# Altium integrated library ON Semi Signal Management Video Amplifiers.IntLib: 22 symbols
Pins are listed as number, name and electrical type; pins without a type are passive.

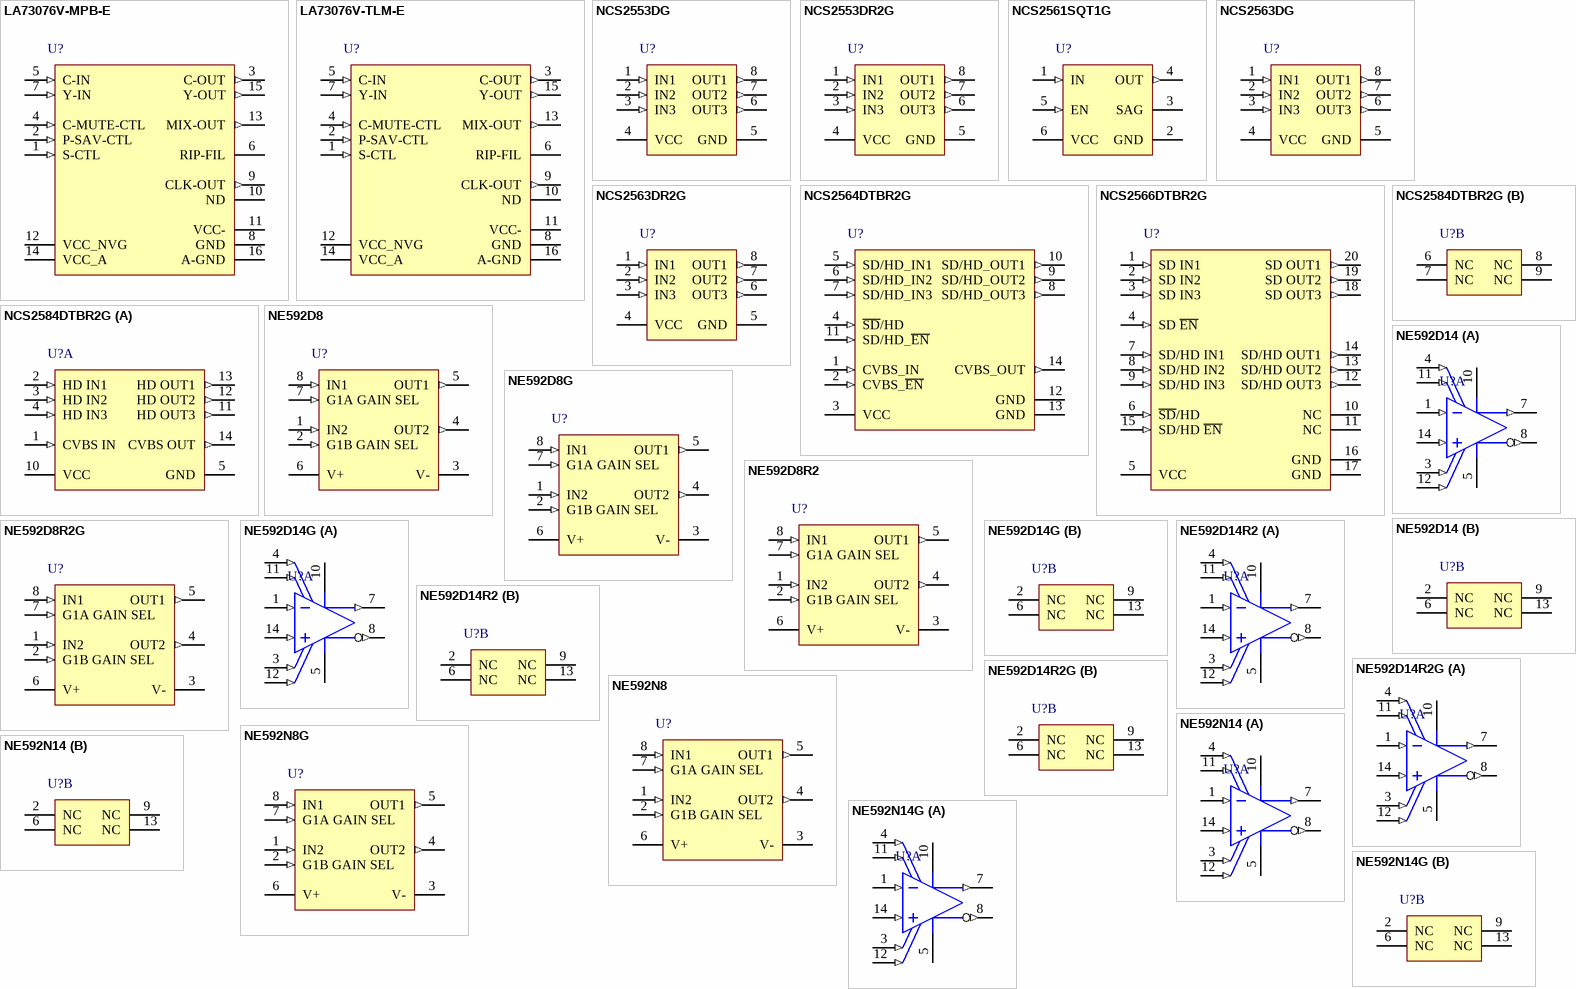
[diagram p0: symbols LA73076V-MPB-E to NE592N14G]

## LA73076V-MPB-E
designator U?
Video Driver for DVC / DSC, Cell Phone, -20 to 80 degC, 16-Pin SSOP, Pb-Free, Fan-Fold; Manufacturer: On Semiconductor; PartNumber: LA73076V-MPB-E; VCC Max (V): 3.6; DatasheetVersion: Rev. 0; PackageReference: SSOP-16; PackageDescription: 16-Pin Small Outline Package, Body 5.2 x 4.4 mm, Pitch 0.65 mm; Supplier 1: Mouser; Supplier Part Number 1: 863-LA73076V-MPB-E; Packing: Fan-Fold; RoHS: TRUE; Mounting Technology: Surface Mount; ComponentLink1Description: Manufacturer URL; ComponentLink1URL: http://www.onsemi.com/; ComponentLink2Description: Datasheet; ComponentLink2URL: http://www.onsemi.com/pub_link/Collateral/ENA0911-D.PDF; ComponentLink3Description: Package Specification; ComponentLink3URL: http://www.onsemi.com/pub_link/Collateral/ENA1879-D.PDF
footprint ONSC-SSOP-16_N (SOP, 16-Leads, Body 5.2x4.4mm, Pitch 0.65mm, IPC Medium Density)
footprint ONSC-SSOP-16_L (SOP, 16-Leads, Body 5.2x4.4mm, Pitch 0.65mm, IPC High Density)
footprint ONSC-SSOP-16_M (SOP, 16-Leads, Body 5.2x4.4mm, Pitch 0.65mm, IPC Low Density)
pins: 1 S-CTL (in) "Output  select pin", 2 P-SAV-CTL (in) "Power save mode select pin", 3 C-OUT (out) "Video output terminal (Push-pull output low-impedance)", 4 C-MUTE-CTL (in) "Mute select pin", 5 C-IN (in) "Video input terminal (Input high-impedance)", 6 RIP-FIL, 7 Y-IN (in) "Video input terminal (Sync-chip clamp (Input high-impedance))", 8 GND (power), 9 CLK-OUT (out) "Clock output terminal", 10 ND "The terminal which transmits an electric charge", 11 VCC- (power) "-VCC", 12 VCC_NVG (power), 13 MIX-OUT (out) "Video output terminal (Push-pull output low-impedance)", 14 VCC_A (power) "Analog VCC", 15 Y-OUT (out), 16 A-GND (power) "Analog GND"

## LA73076V-TLM-E
designator U?
Video Driver for DVC / DSC, Cell Phone, -20 to 80 degC, 16-Pin SSOP, Pb-Free, Tape and Reel; Manufacturer: On Semiconductor; PartNumber: LA73076V-TLM-E; VCC Max (V): 3.6; DatasheetVersion: Rev. 0; PackageReference: SSOP-16; PackageDescription: 16-Pin Small Outline Package, Body 5.2 x 4.4 mm, Pitch 0.65 mm; Supplier 1: Mouser; Supplier Part Number 1: 863-LA73076V-TLM-E; Packing: Tape and Reel; RoHS: TRUE; Mounting Technology: Surface Mount; ComponentLink1Description: Manufacturer URL; ComponentLink1URL: http://www.onsemi.com/; ComponentLink2Description: Datasheet; ComponentLink2URL: http://www.onsemi.com/pub_link/Collateral/ENA0911-D.PDF; ComponentLink3Description: Package Specification; ComponentLink3URL: http://www.onsemi.com/pub_link/Collateral/ENA1879-D.PDF
footprint ONSC-SSOP-16_N (SOP, 16-Leads, Body 5.2x4.4mm, Pitch 0.65mm, IPC Medium Density)
footprint ONSC-SSOP-16_L (SOP, 16-Leads, Body 5.2x4.4mm, Pitch 0.65mm, IPC High Density)
footprint ONSC-SSOP-16_M (SOP, 16-Leads, Body 5.2x4.4mm, Pitch 0.65mm, IPC Low Density)
pins: 1 S-CTL (in) "Output  select pin", 2 P-SAV-CTL (in) "Power save mode select pin", 3 C-OUT (out) "Video output terminal (Push-pull output low-impedance)", 4 C-MUTE-CTL (in) "Mute select pin", 5 C-IN (in) "Video input terminal (Input high-impedance)", 6 RIP-FIL, 7 Y-IN (in) "Video input terminal (Sync-chip clamp (Input high-impedance))", 8 GND (power), 9 CLK-OUT (out) "Clock output terminal", 10 ND "The terminal which transmits an electric charge", 11 VCC- (power) "-VCC", 12 VCC_NVG (power), 13 MIX-OUT (out) "Video output terminal (Push-pull output low-impedance)", 14 VCC_A (power) "Analog VCC", 15 Y-OUT (out), 16 A-GND (power) "Analog GND"

## NCS2553DG
designator U?
3-Channel Video Amplifier with Standard Definition Reconstruction Filters, -40 to 85 degC, 8-Pin SOIC, Pb-Free, Tube; Manufacturer: On Semiconductor; PartNumber: NCS2553DG; VCC Max (V): 5.25; DatasheetVersion: Rev. 4; PackageVersion: Rev. AK, 02/2011; PackageReference: SOIC-8-751-07; PackageDescription: 8-Pin Small Outline Integrated Circuit, Body 4.9 x 3.9 mm, Pitch 1.27 mm; Supplier 1: Digi-Key; Supplier Part Number 1: NCS2553DG-ND; Supplier 2: Mouser; Supplier Part Number 2: 863-NCS2553DG; Packing: Tube; RoHS: TRUE; Mounting Technology: Surface Mount; ComponentLink1Description: Manufacturer URL; ComponentLink1URL: http://www.onsemi.com/; ComponentLink2Description: Datasheet; ComponentLink2URL: http://www.onsemi.com/pub_link/Collateral/NCS2553-D.PDF; ComponentLink3Description: Package Specification; ComponentLink3URL: http://www.onsemi.com/pub_link/Collateral/751-07.PDF
footprint ONSC-SOIC-8-751-07_V (SOIC, 8-Leads, Body 4.9x3.9mm, Pitch 1.27mm)
pins: 1 IN1 (in), 2 IN2 (in), 3 IN3 (in), 4 VCC (power) "Device Power Supply Voltage: +5 V", 5 GND (power) "Connected to Ground", 6 OUT3 (out), 7 OUT2 (out), 8 OUT1 (out)

## NCS2553DR2G
designator U?
3-Channel Video Amplifier with Standard Definition Reconstruction Filters, -40 to 85 degC, 8-Pin SOIC, Pb-Free, Tape and Reel; Manufacturer: On Semiconductor; PartNumber: NCS2553DR2G; VCC Max (V): 5.25; DatasheetVersion: Rev. 4; PackageVersion: Rev. AK, 02/2011; PackageReference: SOIC-8-751-07; PackageDescription: 8-Pin Small Outline Integrated Circuit, Body 4.9 x 3.9 mm, Pitch 1.27 mm; Supplier 1: Digi-Key; Supplier Part Number 1: NCS2553DR2GOSTR-ND; Supplier 2: Digi-Key; Supplier Part Number 2: NCS2553DR2GOSCT-ND; Supplier 3: Digi-Key; Supplier Part Number 3: NCS2553DR2GOSDKR-ND; Supplier 4: Mouser; Supplier Part Number 4: 863-NCS2553DR2G; Packing: Tape and Reel; RoHS: TRUE; Mounting Technology: Surface Mount; ComponentLink1Description: Manufacturer URL; ComponentLink1URL: http://www.onsemi.com/; ComponentLink2Description: Datasheet; ComponentLink2URL: http://www.onsemi.com/pub_link/Collateral/NCS2553-D.PDF; ComponentLink3Description: Package Specification; ComponentLink3URL: http://www.onsemi.com/pub_link/Collateral/751-07.PDF
footprint ONSC-SOIC-8-751-07_V (SOIC, 8-Leads, Body 4.9x3.9mm, Pitch 1.27mm)
pins: 1 IN1 (in), 2 IN2 (in), 3 IN3 (in), 4 VCC (power) "Device Power Supply Voltage: +5 V", 5 GND (power) "Connected to Ground", 6 OUT3 (out), 7 OUT2 (out), 8 OUT1 (out)

## NCS2561SQT1G
designator U?
3.3 V Single Channel Video Driver with Recontruction Filter and SAG Correction, -40 to 125 degC, 6-Pin SC70, Pb-Free, Tape and Reel; Manufacturer: On Semiconductor; PartNumber: NCS2561SQT1G; GBW Typ (MHz): 8; VCC Max (V): 3.3; DatasheetVersion: Rev. 3; PackageVersion: Rev. W, 01/2006; PackageReference: SC70-6-419B-02_W; PackageDescription: 6-Pin Small Outline Transistor, Body 2 x 1.25 mm, Pitch 0.65 mm; Supplier 1: Digi-Key; Supplier Part Number 1: NCS2561SQT1GOSTR-ND; Supplier 2: Digi-Key; Supplier Part Number 2: NCS2561SQT1GOSCT-ND; Supplier 3: Digi-Key; Supplier Part Number 3: NCS2561SQT1GOSDKR-ND; Supplier 4: Newark; Supplier Part Number 4: 95M6844; Supplier 5: Mouser; Supplier Part Number 5: 863-NCS2561SQT1G; Packing: Tape and Reel; RoHS: TRUE; Mounting Technology: Surface Mount; ComponentLink1Description: Manufacturer URL; ComponentLink1URL: http://www.onsemi.com/; ComponentLink2Description: Datasheet; ComponentLink2URL: http://www.onsemi.com/pub/Collateral/NCS2561-D.PDF; ComponentLink3Description: Package Specification; ComponentLink3URL: http://www.onsemi.com/pub_link/Collateral/SMF05C-D.PDF
footprint ONSC-SC70-6-419B-02_W_V (SOT23, 6-Leads, Body 2.2x1.35mm, Pitch 0.65mm)
pins: 1 IN (in) "Video Input", 2 GND (power) "Ground", 3 SAG "Sag Compensation", 4 OUT (out) "Video Output", 5 EN (in) "Enable / Disable Function: High = Enable, Low = Disable. When left open the default state is High.", 6 VCC (power) "Power Supply / 2.7 V =< VCC =< 3.3 V"

## NCS2563DG
designator U?
3-Channel Video Amplifier with High Definition Reconstruction Filters, -40 to 85 degC, 8-Pin SOIC, Pb-Free, Tube; Manufacturer: On Semiconductor; PartNumber: NCS2563DG; VCC Max (V): 5.25; DatasheetVersion: Rev. 4; PackageVersion: Rev. AK, 02/2011; PackageReference: SOIC-8-751-07; PackageDescription: 8-Pin Small Outline Integrated Circuit, Body 4.9 x 3.9 mm, Pitch 1.27 mm; Supplier 1: Digi-Key; Supplier Part Number 1: NCS2563DG-ND; Supplier 2: Mouser; Supplier Part Number 2: 863-NCS2563DG; Packing: Tube; RoHS: TRUE; Mounting Technology: Surface Mount; ComponentLink1Description: Manufacturer URL; ComponentLink1URL: http://www.onsemi.com/; ComponentLink2Description: Datasheet; ComponentLink2URL: http://www.onsemi.com/pub_link/Collateral/NCS2563-D.PDF; ComponentLink3Description: Package Specification; ComponentLink3URL: http://www.onsemi.com/pub_link/Collateral/751-07.PDF
footprint ONSC-SOIC-8-751-07_V (SOIC, 8-Leads, Body 4.9x3.9mm, Pitch 1.27mm)
pins: 1 IN1 (in), 2 IN2 (in), 3 IN3 (in), 4 VCC (power) "Device Power Supply Voltage: +5 V", 5 GND (power) "Connected to Ground", 6 OUT3 (out), 7 OUT2 (out), 8 OUT1 (out)

## NCS2563DR2G
designator U?
3-Channel Video Amplifier with High Definition Reconstruction Filters, -40 to 85 degC, 8-Pin SOIC, Pb-Free, Tape and Reel; Manufacturer: On Semiconductor; PartNumber: NCS2563DR2G; VCC Max (V): 5.25; DatasheetVersion: Rev. 4; PackageVersion: Rev. AK, 02/2011; PackageReference: SOIC-8-751-07; PackageDescription: 8-Pin Small Outline Integrated Circuit, Body 4.9 x 3.9 mm, Pitch 1.27 mm; Supplier 1: Digi-Key; Supplier Part Number 1: NCS2563DR2GOSTR-ND; Supplier 2: Digi-Key; Supplier Part Number 2: NCS2563DR2GOSCT-ND; Supplier 3: Digi-Key; Supplier Part Number 3: NCS2563DR2GOSDKR-ND; Supplier 4: Mouser; Supplier Part Number 4: 863-NCS2563DR2G; Packing: Tape and Reel; RoHS: TRUE; Mounting Technology: Surface Mount; ComponentLink1Description: Manufacturer URL; ComponentLink1URL: http://www.onsemi.com/; ComponentLink2Description: Datasheet; ComponentLink2URL: http://www.onsemi.com/pub_link/Collateral/NCS2563-D.PDF; ComponentLink3Description: Package Specification; ComponentLink3URL: http://www.onsemi.com/pub_link/Collateral/751-07.PDF
footprint ONSC-SOIC-8-751-07_V (SOIC, 8-Leads, Body 4.9x3.9mm, Pitch 1.27mm)
pins: 1 IN1 (in), 2 IN2 (in), 3 IN3 (in), 4 VCC (power) "Device Power Supply Voltage: +5 V", 5 GND (power) "Connected to Ground", 6 OUT3 (out), 7 OUT2 (out), 8 OUT1 (out)

## NCS2564DTBR2G
designator U?
Four-Channel Video Driver with Selectable SD / HD Reconstruction Filters, -40 to 85 degC, 14-Pin TSSOP, Pb-Free, Tape and Reel; Manufacturer: On Semiconductor; PartNumber: NCS2564DTBR2G; VCC Max (V): 5.3; DatasheetVersion: Rev. 6; PackageVersion: Rev. B, 10/2006; PackageReference: TSSOP-14-948G-01; PackageDescription: 14-Pin Small Outline Package, Body 5 x 4.4 mm, Pitch 0.65 mm; Supplier 1: Digi-Key; Supplier Part Number 1: NCS2564DTBR2G-ND; Supplier 2: Mouser; Supplier Part Number 2: 863-NCS2564DTBR2G; Packing: Tape and Reel; RoHS: TRUE; Mounting Technology: Surface Mount; ComponentLink1Description: Manufacturer URL; ComponentLink1URL: http://www.onsemi.com/; ComponentLink2Description: Datasheet; ComponentLink2URL: http://www.onsemi.com/pub_link/Collateral/NCS2564-D.PDF; ComponentLink3Description: Package Specification; ComponentLink3URL: http://www.onsemi.com/pub_link/Collateral/948G-01.PDF
footprint ONSC-TSSOP-14-948G-01_V (SOP, 14-Leads, Body 5.1x4.5mm, Pitch 0.65mm)
pins: 1 CVBS_IN (in) "Video Input for Video Signal featuring a frequency bandwidth compatible with NTSC / PAL / SECAM Video (8 MHz) - CVBS Channel", 2 CVBS_~{EN} (in) "CVBS Channel Enable /Disable Function: Low = Enable, High = Disable. When left open the default state is Enable.", 3 VCC (power) "Power Supply / 4.7 V to 5.3 V", 4 ~{SD}/HD (in) "Pin of selection enabling the Standard Definition or High Definition Filters (8 MHz / 34 MHz) for channels SD/HD - when Low SD filters are selected, when High HD filters are selected.", 5 SD/HD_IN1 (in) "Selectable SD or HD Video Input 1 - SD/HD Channel 1", 6 SD/HD_IN2 (in) "Selectable SD or HD Video Input 2 - SD/HD Channel 2", 7 SD/HD_IN3 (in) "Selectable SD or HD Video Input 3 - SD/HD Channel 3", 8 SD/HD_OUT3 (out) "SD/HD Video Output 3 - SD/HD Channel 3", 9 SD/HD_OUT2 (out) "SD/HD Video Output 2 - SD/HD Channel 2", 10 SD/HD_OUT1 (out) "SD/HD Video Output 1 - SD/HD Channel 1", 11 SD/HD_~{EN} (in) "SD/HD Channel Enable/Disable Function: Low = Enable, High = Disable. When left open the default state is Enable.", 12 GND (power) "Ground", 13 GND (power) "Ground", 14 CVBS_OUT (out) "CVBS Video Output - CVBS Channel"

## NCS2566DTBR2G
designator U?
Six-Channel Video Driver with Triple SD & Triple Selectable SD / HD Filters, -40 to 85 degC, 20-Pin TSSOP, Pb-Free, Tape and Reel; Manufacturer: On Semiconductor; PartNumber: NCS2566DTBR2G; VCC Max (V): 5.3; DatasheetVersion: Rev. 3; PackageVersion: Rev. C, 10/2006; PackageReference: TSSOP-20-948E-02; PackageDescription: 20-Pin Small Outline Package, Body 6.5 x 4.4 mm, Pitch 0.65 mm; Supplier 1: Digi-Key; Supplier Part Number 1: NCS2566DTBR2G-ND; Supplier 2: Mouser; Supplier Part Number 2: 863-NCS2566DTBR2G; Packing: Tape and Reel; RoHS: TRUE; Mounting Technology: Surface Mount; ComponentLink1Description: Manufacturer URL; ComponentLink1URL: http://www.onsemi.com/; ComponentLink2Description: Datasheet; ComponentLink2URL: http://www.onsemi.com/pub_link/Collateral/NCS2566-D.PDF; ComponentLink3Description: Package Specification; ComponentLink3URL: http://www.onsemi.com/pub_link/Collateral/948E-02.PDF
footprint ONSC-TSSOP-20-948E-02_V (SOP, 20-Leads, Body 6.6x4.5mm, Pitch 0.65mm)
pins: 1 SD IN1 (in) "SD Video Input 1 - SD Channel 1", 2 SD IN2 (in) "SD Video Input 2 - SD Channel 2", 3 SD IN3 (in) "SD Video Input 3 - SD Channel 3", 4 SD ~{EN} (in) "SD-Channel Enable/Disable Function: Low = Enable, High = Disable. When left open the default state is Enable.", 5 VCC (power) "Device Power Supply Voltage: +5 V +/-5%", 6 ~{SD}/HD (in) "Pin of selection enabling the Standard Definition or High Definition Filters (8 MHz / 34 MHz) for channels SD/HD (pins 7-14, 8-13 & 9-12) - when Low SD filters are selected, when High HD filters are selected.", 7 SD/HD IN1 (in) "Selectable SD or HD Video Input 1 - SD/HD Channel 1", 8 SD/HD IN2 (in) "Selectable SD or HD Video Input 2 - SD/HD Channel 2", 9 SD/HD IN3 (in) "Selectable SD or HD Video Input 3 - SD/HD Channel 3", 10 NC "Not Connected", 11 NC "Not Connected", 12 SD/HD OUT3 (out) "SD/HD Video Output 3 - SD/HD Channel 3", 13 SD/HD OUT2 (out) "SD/HD Video Output 2 - SD/HD Channel 2", 14 SD/HD OUT1 (out) "SD/HD Video Output 1 - SD/HD Channel 1", 15 SD/HD ~{EN} (in) "SD/HD Channel Enable /Disable Function: Low = Enable, High = Disable. When left open the default state is Enable", 16 GND (power) "Connected to Ground", 17 GND (power) "Connected to Ground", 18 SD OUT3 (out) "SD Video Output 3 - SD Channel 3", 19 SD OUT2 (out) "SD Video Output 2 - SD Channel 2", 20 SD OUT1 (out) "SD Video Output 1 - SD Channel 1"

## NCS2584DTBR2G
designator U?
Four-Channel Video Driver with Load Detection and Signal Detection, -40 to 85 degC, 14-Pin TSSOP, Pb-Free, Tape and Reel; Manufacturer: On Semiconductor; PartNumber: NCS2584DTBR2G; VCC Max (V): 5.5; DatasheetVersion: Rev. 0; PackageVersion: Rev. B, 10/2006; PackageReference: TSSOP-14-948G-01; PackageDescription: 14-Pin Small Outline Package, Body 5 x 4.4 mm, Pitch 0.65 mm; Supplier 1: Digi-Key; Supplier Part Number 1: NCS2584DTBR2GOSTR-ND; Supplier 2: Digi-Key; Supplier Part Number 2: NCS2584DTBR2GOSCT-ND; Supplier 3: Digi-Key; Supplier Part Number 3: NCS2584DTBR2GOSDKR-ND; Supplier 4: Mouser; Supplier Part Number 4: 863-NCS2584DTBR2G; Packing: Tape and Reel; RoHS: TRUE; Mounting Technology: Surface Mount; ComponentLink1Description: Manufacturer URL; ComponentLink1URL: http://www.onsemi.com/; ComponentLink2Description: Datasheet; ComponentLink2URL: http://www.onsemi.com/pub_link/Collateral/NCS2584-D.PDF; ComponentLink3Description: Package Specification; ComponentLink3URL: http://www.onsemi.com/pub_link/Collateral/948G-01.PDF
footprint ONSC-TSSOP-14-948G-01_V (SOP, 14-Leads, Body 5.1x4.5mm, Pitch 0.65mm)
part A pins: 1 CVBS IN (in) "Cvbs Input Channel", 2 HD IN1 (in) "High Definition Input 1", 3 HD IN2 (in) "High Definition Input 2", 4 HD IN3 (in) "High Definition Input 3", 5 GND (power) "Ground", 10 VCC (power) "Power Supply 3.3 V or 5 V", 11 HD OUT3 (out) "High Definition Output 3", 12 HD OUT2 (out) "High Definition Output 2", 13 HD OUT1 (out) "High Definition Output 1", 14 CVBS OUT (out) "Cvbs Output Channel"
part B pins: 6 NC "No Connection", 7 NC "No Connection", 8 NC "No Connection", 9 NC "No Connection"

## NE592D8
designator U?
Video Amplifier, 0 to 70 degC, 8-Pin SOIC, Tube; Manufacturer: On Semiconductor; PartNumber: NE592D8; GBW Typ (MHz): 40; VCC Max (V): 8; DatasheetVersion: Rev. 4; PackageVersion: Rev. AK, 02/2011; PackageReference: SOIC-8-751-07; PackageDescription: 8-Pin Small Outline Integrated Circuit, Body 4.9 x 3.9 mm, Pitch 1.27 mm; Supplier 1: Digi-Key; Supplier Part Number 1: NE592D8-ND; Packing: Tube; RoHS: FALSE; Mounting Technology: Surface Mount; ComponentLink1Description: Manufacturer URL; ComponentLink1URL: http://www.onsemi.com/; ComponentLink2Description: Datasheet; ComponentLink2URL: http://www.onsemi.com/pub_link/Collateral/NE592-D.PDF; ComponentLink3Description: Package Specification; ComponentLink3URL: http://www.onsemi.com/pub_link/Collateral/751-07.PDF
footprint ONSC-SOIC-8-751-07_V (SOIC, 8-Leads, Body 4.9x3.9mm, Pitch 1.27mm)
pins: 1 IN2 (in), 2 G1B GAIN SEL (in), 3 V- (power), 4 OUT2 (out), 5 OUT1 (out), 6 V+ (power), 7 G1A GAIN SEL (in), 8 IN1 (in)

## NE592D8G
designator U?
Video Amplifier, 0 to 70 degC, 8-Pin SOIC, Pb-Free, Tube; Manufacturer: On Semiconductor; PartNumber: NE592D8G; GBW Typ (MHz): 40; VCC Max (V): 8; DatasheetVersion: Rev. 4; PackageVersion: Rev. AK, 02/2011; PackageReference: SOIC-8-751-07; PackageDescription: 8-Pin Small Outline Integrated Circuit, Body 4.9 x 3.9 mm, Pitch 1.27 mm; Supplier 1: Digi-Key; Supplier Part Number 1: NE592D8GOS-ND; Supplier 2: Farnell; Supplier Part Number 2: 1426401; Supplier 3: Newark; Supplier Part Number 3: 58M9778; Supplier 4: Newark; Supplier Part Number 4: 42K2224; Supplier 5: Mouser; Supplier Part Number 5: 863-NE592D8G; Packing: Tube; RoHS: TRUE; Mounting Technology: Surface Mount; ComponentLink1Description: Manufacturer URL; ComponentLink1URL: http://www.onsemi.com/; ComponentLink2Description: Datasheet; ComponentLink2URL: http://www.onsemi.com/pub_link/Collateral/NE592-D.PDF; ComponentLink3Description: Package Specification; ComponentLink3URL: http://www.onsemi.com/pub_link/Collateral/751-07.PDF
footprint ONSC-SOIC-8-751-07_V (SOIC, 8-Leads, Body 4.9x3.9mm, Pitch 1.27mm)
pins: 1 IN2 (in), 2 G1B GAIN SEL (in), 3 V- (power), 4 OUT2 (out), 5 OUT1 (out), 6 V+ (power), 7 G1A GAIN SEL (in), 8 IN1 (in)

## NE592D8R2
designator U?
Video Amplifier, 0 to 70 degC, 8-Pin SOIC, Tape and Reel; Manufacturer: On Semiconductor; PartNumber: NE592D8R2; GBW Typ (MHz): 40; VCC Max (V): 8; DatasheetVersion: Rev. 4; PackageVersion: Rev. AK, 02/2011; PackageReference: SOIC-8-751-07; PackageDescription: 8-Pin Small Outline Integrated Circuit, Body 4.9 x 3.9 mm, Pitch 1.27 mm; Supplier 1: Digi-Key; Supplier Part Number 1: NE592D8R2-ND; Packing: Tape and Reel; RoHS: FALSE; Mounting Technology: Surface Mount; ComponentLink1Description: Manufacturer URL; ComponentLink1URL: http://www.onsemi.com/; ComponentLink2Description: Datasheet; ComponentLink2URL: http://www.onsemi.com/pub_link/Collateral/NE592-D.PDF; ComponentLink3Description: Package Specification; ComponentLink3URL: http://www.onsemi.com/pub_link/Collateral/751-07.PDF
footprint ONSC-SOIC-8-751-07_V (SOIC, 8-Leads, Body 4.9x3.9mm, Pitch 1.27mm)
pins: 1 IN2 (in), 2 G1B GAIN SEL (in), 3 V- (power), 4 OUT2 (out), 5 OUT1 (out), 6 V+ (power), 7 G1A GAIN SEL (in), 8 IN1 (in)

## NE592D8R2G
designator U?
Video Amplifier, 0 to 70 degC, 8-Pin SOIC, Pb-Free, Tape and Reel; Manufacturer: On Semiconductor; PartNumber: NE592D8R2G; GBW Typ (MHz): 40; VCC Max (V): 8; DatasheetVersion: Rev. 4; PackageVersion: Rev. AK, 02/2011; PackageReference: SOIC-8-751-07; PackageDescription: 8-Pin Small Outline Integrated Circuit, Body 4.9 x 3.9 mm, Pitch 1.27 mm; Supplier 1: Digi-Key; Supplier Part Number 1: NE592D8R2GOSTR-ND; Supplier 2: Digi-Key; Supplier Part Number 2: NE592D8R2GOSCT-ND; Supplier 3: Digi-Key; Supplier Part Number 3: NE592D8R2GOSDKR-ND; Supplier 4: Newark; Supplier Part Number 4: 71J6693; Supplier 5: Mouser; Supplier Part Number 5: 863-NE592D8R2G; Packing: Tape and Reel; RoHS: TRUE; Mounting Technology: Surface Mount; ComponentLink1Description: Manufacturer URL; ComponentLink1URL: http://www.onsemi.com/; ComponentLink2Description: Datasheet; ComponentLink2URL: http://www.onsemi.com/pub_link/Collateral/NE592-D.PDF; ComponentLink3Description: Package Specification; ComponentLink3URL: http://www.onsemi.com/pub_link/Collateral/751-07.PDF
footprint ONSC-SOIC-8-751-07_V (SOIC, 8-Leads, Body 4.9x3.9mm, Pitch 1.27mm)
pins: 1 IN2 (in), 2 G1B GAIN SEL (in), 3 V- (power), 4 OUT2 (out), 5 OUT1 (out), 6 V+ (power), 7 G1A GAIN SEL (in), 8 IN1 (in)

## NE592D14
designator U?
Video Amplifier, 0 to 70 degC, 14-Pin SOIC, Tube; Manufacturer: On Semiconductor; PartNumber: NE592D14; GBW Typ (MHz): 90; VCC Max (V): 8; DatasheetVersion: Rev. 4; PackageVersion: Rev. H; PackageReference: SOIC-14-751A-03_H; PackageDescription: 14-Pin Small Outline Integrated Circuit, Body 8.65 x 3.9 mm, Pitch 1.27 mm; Supplier 1: Digi-Key; Supplier Part Number 1: NE592D14-ND; Packing: Tube; RoHS: FALSE; Mounting Technology: Surface Mount; ComponentLink1Description: Manufacturer URL; ComponentLink1URL: http://www.onsemi.com/; ComponentLink2Description: Datasheet; ComponentLink2URL: http://www.onsemi.com/pub_link/Collateral/NE592-D.PDF; ComponentLink3Description: Package Specification; ComponentLink3URL: http://www.onsemi.com/pub_link/Collateral/MC74AC74-D.PDF
footprint ONSC-SOIC-14-751A-03_H_V (SOIC, 14-Leads, Body 8.75x4mm, Pitch 1.27mm)
part A pins: 1 IN2 (in), 3 G2B GAIN SEL (in), 4 G1B GAIN SEL (in), 5 V- (power), 7 OUT2 (out), 8 OUT1 (out), 10 V+ (power), 11 G1A GAIN SEL (in), 12 G2A GAIN SEL (in), 14 IN1 (in)
part B pins: 2 NC, 6 NC, 9 NC, 13 NC

## NE592D14G
designator U?
Video Amplifier, 0 to 70 degC, 14-Pin SOIC, Pb-Free, Tube; Manufacturer: On Semiconductor; PartNumber: NE592D14G; GBW Typ (MHz): 90; VCC Max (V): 8; DatasheetVersion: Rev. 4; PackageVersion: Rev. H; PackageReference: SOIC-14-751A-03_H; PackageDescription: 14-Pin Small Outline Integrated Circuit, Body 8.65 x 3.9 mm, Pitch 1.27 mm; Supplier 1: Digi-Key; Supplier Part Number 1: NE592D14G-ND; Supplier 2: Farnell; Supplier Part Number 2: 1468773; Supplier 3: Newark; Supplier Part Number 3: 42K2222; Supplier 4: Mouser; Supplier Part Number 4: 863-NE592D14G; Packing: Tube; RoHS: TRUE; Mounting Technology: Surface Mount; ComponentLink1Description: Manufacturer URL; ComponentLink1URL: http://www.onsemi.com/; ComponentLink2Description: Datasheet; ComponentLink2URL: http://www.onsemi.com/pub_link/Collateral/NE592-D.PDF; ComponentLink3Description: Package Specification; ComponentLink3URL: http://www.onsemi.com/pub_link/Collateral/MC74AC74-D.PDF
footprint ONSC-SOIC-14-751A-03_H_V (SOIC, 14-Leads, Body 8.75x4mm, Pitch 1.27mm)
part A pins: 1 IN2 (in), 3 G2B GAIN SEL (in), 4 G1B GAIN SEL (in), 5 V- (power), 7 OUT2 (out), 8 OUT1 (out), 10 V+ (power), 11 G1A GAIN SEL (in), 12 G2A GAIN SEL (in), 14 IN1 (in)
part B pins: 2 NC, 6 NC, 9 NC, 13 NC

## NE592D14R2
designator U?
Video Amplifier, 0 to 70 degC, 14-Pin SOIC, Tape and Reel; Manufacturer: On Semiconductor; PartNumber: NE592D14R2; GBW Typ (MHz): 90; VCC Max (V): 8; DatasheetVersion: Rev. 4; PackageVersion: Rev. H; PackageReference: SOIC-14-751A-03_H; PackageDescription: 14-Pin Small Outline Integrated Circuit, Body 8.65 x 3.9 mm, Pitch 1.27 mm; Supplier 1: Digi-Key; Supplier Part Number 1: NE592D14R2-ND; Packing: Tape and Reel; RoHS: FALSE; Mounting Technology: Surface Mount; ComponentLink1Description: Manufacturer URL; ComponentLink1URL: http://www.onsemi.com/; ComponentLink2Description: Datasheet; ComponentLink2URL: http://www.onsemi.com/pub_link/Collateral/NE592-D.PDF; ComponentLink3Description: Package Specification; ComponentLink3URL: http://www.onsemi.com/pub_link/Collateral/MC74AC74-D.PDF
footprint ONSC-SOIC-14-751A-03_H_V (SOIC, 14-Leads, Body 8.75x4mm, Pitch 1.27mm)
part A pins: 1 IN2 (in), 3 G2B GAIN SEL (in), 4 G1B GAIN SEL (in), 5 V- (power), 7 OUT2 (out), 8 OUT1 (out), 10 V+ (power), 11 G1A GAIN SEL (in), 12 G2A GAIN SEL (in), 14 IN1 (in)
part B pins: 2 NC, 6 NC, 9 NC, 13 NC

## NE592D14R2G
designator U?
Video Amplifier, 0 to 70 degC, 14-Pin SOIC, Pb-Free, Tape and Reel; Manufacturer: On Semiconductor; PartNumber: NE592D14R2G; GBW Typ (MHz): 90; VCC Max (V): 8; DatasheetVersion: Rev. 4; PackageVersion: Rev. H; PackageReference: SOIC-14-751A-03_H; PackageDescription: 14-Pin Small Outline Integrated Circuit, Body 8.65 x 3.9 mm, Pitch 1.27 mm; Supplier 1: Digi-Key; Supplier Part Number 1: NE592D14R2GOSTR-ND; Supplier 2: Digi-Key; Supplier Part Number 2: NE592D14R2GOSCT-ND; Supplier 3: Mouser; Supplier Part Number 3: 863-NE592D14R2G; Packing: Tape and Reel; RoHS: TRUE; Mounting Technology: Surface Mount; ComponentLink1Description: Manufacturer URL; ComponentLink1URL: http://www.onsemi.com/; ComponentLink2Description: Datasheet; ComponentLink2URL: http://www.onsemi.com/pub_link/Collateral/NE592-D.PDF; ComponentLink3Description: Package Specification; ComponentLink3URL: http://www.onsemi.com/pub_link/Collateral/MC74AC74-D.PDF
footprint ONSC-SOIC-14-751A-03_H_V (SOIC, 14-Leads, Body 8.75x4mm, Pitch 1.27mm)
part A pins: 1 IN2 (in), 3 G2B GAIN SEL (in), 4 G1B GAIN SEL (in), 5 V- (power), 7 OUT2 (out), 8 OUT1 (out), 10 V+ (power), 11 G1A GAIN SEL (in), 12 G2A GAIN SEL (in), 14 IN1 (in)
part B pins: 2 NC, 6 NC, 9 NC, 13 NC

## NE592N8
designator U?
Video Amplifier, 0 to 70 degC, 8-Pin PDIP, Tube; Manufacturer: On Semiconductor; PartNumber: NE592N8; GBW Typ (MHz): 40; VCC Max (V): 8; DatasheetVersion: Rev. 4; PackageVersion: Rev. L, 09/2000; PackageReference: PDIP-8-626-05; PackageDescription: 8-Pin Plastic Dual-In Line Package, Body 9.78 x 6.35 mm, Pitch 2.54 mm; Supplier 1: Digi-Key; Supplier Part Number 1: NE592N8-ND; Supplier 2: Mouser; Supplier Part Number 2: 863-NE592N8; Packing: Tube; RoHS: FALSE; Mounting Technology: Through Hole; ComponentLink1Description: Manufacturer URL; ComponentLink1URL: http://www.onsemi.com/; ComponentLink2Description: Datasheet; ComponentLink2URL: http://www.onsemi.com/pub_link/Collateral/NE592-D.PDF; ComponentLink3Description: Package Specification; ComponentLink3URL: http://www.onsemi.cn/pub_link/Collateral/MC33178-D.PDF
footprint ONSC-PDIP-8-626-05_L (DIP, 8-Leads, Body 10.15x6.6mm, Pitch 2.54mm)
pins: 1 IN2 (in), 2 G1B GAIN SEL (in), 3 V- (power), 4 OUT2 (out), 5 OUT1 (out), 6 V+ (power), 7 G1A GAIN SEL (in), 8 IN1 (in)

## NE592N8G
designator U?
Video Amplifier, 0 to 70 degC, 8-Pin PDIP, Pb-Free, Tube; Manufacturer: On Semiconductor; PartNumber: NE592N8G; GBW Typ (MHz): 40; VCC Max (V): 8; DatasheetVersion: Rev. 4; PackageVersion: Rev. L, 09/2000; PackageReference: PDIP-8-626-05; PackageDescription: 8-Pin Plastic Dual-In Line Package, Body 9.78 x 6.35 mm, Pitch 2.54 mm; Supplier 1: Digi-Key; Supplier Part Number 1: NE592N8GOS-ND; Supplier 2: Farnell; Supplier Part Number 2: 1468774; Supplier 3: Newark; Supplier Part Number 3: 42K2226; Supplier 4: Mouser; Supplier Part Number 4: 863-NE592N8G; Packing: Tube; RoHS: TRUE; Mounting Technology: Through Hole; ComponentLink1Description: Manufacturer URL; ComponentLink1URL: http://www.onsemi.com/; ComponentLink2Description: Datasheet; ComponentLink2URL: http://www.onsemi.com/pub_link/Collateral/NE592-D.PDF; ComponentLink3Description: Package Specification; ComponentLink3URL: http://www.onsemi.cn/pub_link/Collateral/MC33178-D.PDF
footprint ONSC-PDIP-8-626-05_L (DIP, 8-Leads, Body 10.15x6.6mm, Pitch 2.54mm)
pins: 1 IN2 (in), 2 G1B GAIN SEL (in), 3 V- (power), 4 OUT2 (out), 5 OUT1 (out), 6 V+ (power), 7 G1A GAIN SEL (in), 8 IN1 (in)

## NE592N14
designator U?
Video Amplifier, 0 to 70 degC, 14-Pin PDIP, Tube; Manufacturer: On Semiconductor; PartNumber: NE592N14; GBW Typ (MHz): 90; VCC Max (V): 8; DatasheetVersion: Rev. 4; PackageVersion: Rev. P, 10/2006; PackageReference: PDIP-14-646-06_P; PackageDescription: 14-Pin Plastic Dual-In Line Package, Body 18.86 x 6.35 mm, Pitch 2.54 mm; Supplier 1: Digi-Key; Supplier Part Number 1: NE592N14-ND; Packing: Tube; RoHS: FALSE; Mounting Technology: Through Hole; ComponentLink1Description: Manufacturer URL; ComponentLink1URL: http://www.onsemi.com/; ComponentLink2Description: Datasheet; ComponentLink2URL: http://www.onsemi.com/pub_link/Collateral/NE592-D.PDF; ComponentLink3Description: Package Specification; ComponentLink3URL: http://www.onsemi.com/pub_link/Collateral/MC14066B-D.PDF
footprint ONSC-PDIP-14-646-06_P (DIP, 14-Leads, Body 19.55x6.6mm, Pitch 2.54mm)
part A pins: 1 IN2 (in), 3 G2B GAIN SEL (in), 4 G1B GAIN SEL (in), 5 V- (power), 7 OUT2 (out), 8 OUT1 (out), 10 V+ (power), 11 G1A GAIN SEL (in), 12 G2A GAIN SEL (in), 14 IN1 (in)
part B pins: 2 NC, 6 NC, 9 NC, 13 NC

## NE592N14G
designator U?
Video Amplifier, 0 to 70 degC, 14-Pin PDIP, Pb-Free, Tube; Manufacturer: On Semiconductor; PartNumber: NE592N14G; GBW Typ (MHz): 90; VCC Max (V): 8; DatasheetVersion: Rev. 4; PackageVersion: Rev. P, 10/2006; PackageReference: PDIP-14-646-06_P; PackageDescription: 14-Pin Plastic Dual-In Line Package, Body 18.86 x 6.35 mm, Pitch 2.54 mm; Supplier 1: Digi-Key; Supplier Part Number 1: NE592N14GOS-ND; Supplier 2: Farnell; Supplier Part Number 2: 1273007; Supplier 3: Newark; Supplier Part Number 3: 42K2225; Supplier 4: Mouser; Supplier Part Number 4: 863-NE592N14G; Packing: Tube; RoHS: TRUE; Mounting Technology: Through Hole; ComponentLink1Description: Manufacturer URL; ComponentLink1URL: http://www.onsemi.com/; ComponentLink2Description: Datasheet; ComponentLink2URL: http://www.onsemi.com/pub_link/Collateral/NE592-D.PDF; ComponentLink3Description: Package Specification; ComponentLink3URL: http://www.onsemi.com/pub_link/Collateral/MC14066B-D.PDF
footprint ONSC-PDIP-14-646-06_P (DIP, 14-Leads, Body 19.55x6.6mm, Pitch 2.54mm)
part A pins: 1 IN2 (in), 3 G2B GAIN SEL (in), 4 G1B GAIN SEL (in), 5 V- (power), 7 OUT2 (out), 8 OUT1 (out), 10 V+ (power), 11 G1A GAIN SEL (in), 12 G2A GAIN SEL (in), 14 IN1 (in)
part B pins: 2 NC, 6 NC, 9 NC, 13 NC